# EAGLE library part SQUALL_HEADER (library squall)
Header for a sensor board on top of the Squall BLE tag board. Requires two DF40C-10DS-0.4V(51).
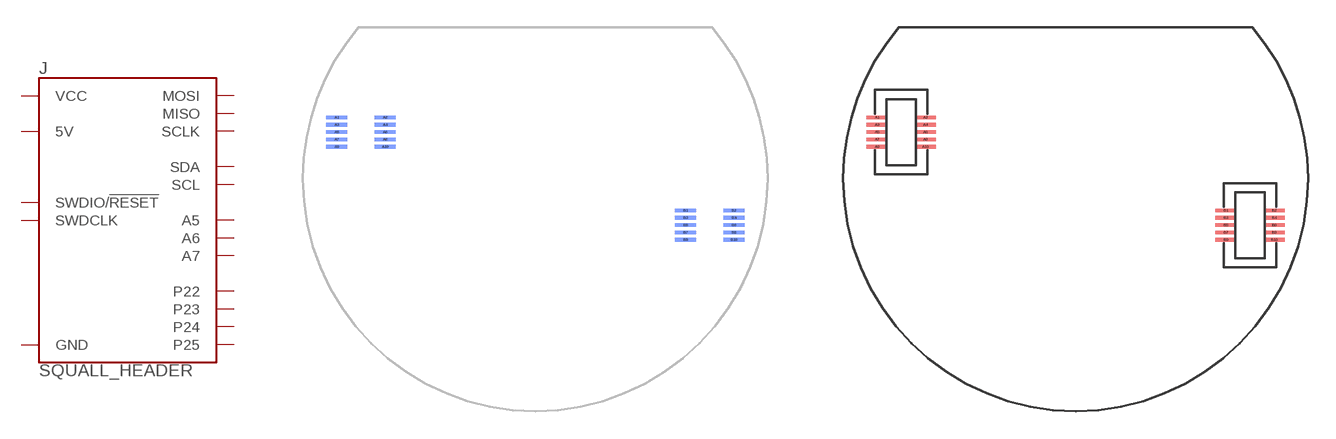
[diagram p0: symbol with the pads of SQUALL_HEADER; footprints SQUALL_HEADER, SQUALL_CARRIER]

Designator prefix J

## SQUALL_HEADER (DIGIKEY: H11617CT-ND)  [SQUALL_HEADER]
A1  VCC
A2  P22
A3  VCC
A4  P23
A5  5V
A6  P24
A7  5V
A8  P25
A9  GND
A10  GND
B1  SDA
B2  SWDCLK
B3  SCL
B4  SWDIO/!RESET
B5  A7
B6  MOSI
B7  A6
B8  MISO
B9  A5
B10  SCLK

## SQUALL_HEADER_BASE  [SQUALL_CARRIER]
Pads as for SQUALL_HEADER

## Footprint SQUALL_HEADER (pad centres in mm)
smd 1.14 x 0.2 bottom: A1 -10.845,3.34; A2 -8.205,3.34; A3 -10.845,2.94; A4 -8.205,2.94; A5 -10.845,2.54; A6 -8.205,2.54; A7 -10.845,2.14; A8 -8.205,2.14; A9 -10.845,1.74; A10 -8.205,1.74; B1 8.205,-1.74; B2 10.845,-1.74; B3 8.205,-2.14; B4 10.845,-2.14; B5 8.205,-2.54; B6 10.845,-2.54; B7 8.205,-2.94; B8 10.845,-2.94; B9 8.205,-3.34; B10 10.845,-3.34

## Footprint SQUALL_CARRIER (pad centres in mm)
smd 1.14 x 0.2: A1 -10.845,3.34; A2 -8.205,3.34; A3 -10.845,2.94; A4 -8.205,2.94; A5 -10.845,2.54; A6 -8.205,2.54; A7 -10.845,2.14; A8 -8.205,2.14; A9 -10.845,1.74; A10 -8.205,1.74; B1 8.205,-1.74; B2 10.845,-1.74; B3 8.205,-2.14; B4 10.845,-2.14; B5 8.205,-2.54; B6 10.845,-2.54; B7 8.205,-2.94; B8 10.845,-2.94; B9 8.205,-3.34; B10 10.845,-3.34